# EAGLE library part 615024143921 (library Wurth_Elektronik_Electromechanic_Input-Output_Connectors_rev16a)
WR-MJ Horizontal Plastic 4 Port 6P6C Modular Jack Tab Up, 24 pins=>Code : Con_I-O_MJ-H_Plastic_Up_615024143921 <http://katalog.we-online.de/media/images/eican/Con_I-O_MJ-H_Plastic_Up_615024143921_pf2.jpg> Details see: http://katalog.we-online.de/en/em/615_024_143_921 Created 2014-07-10, Karrer Zheng 2014 (C) Würth Elektronik
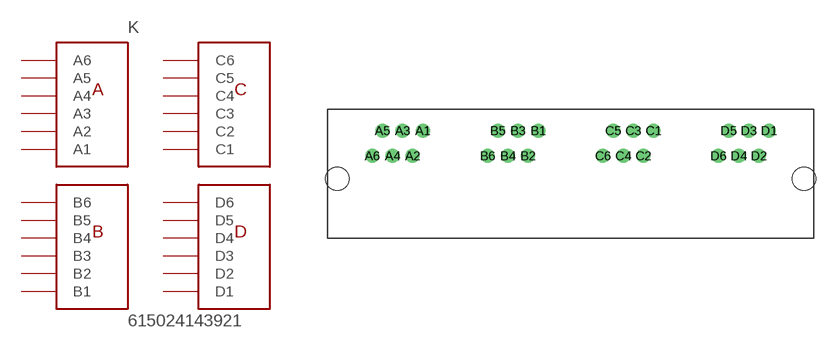
[diagram p132: symbol with the pads of 615024143921; footprint 615024143921]

Designator prefix K

## 615024143921  [615024143921]
A1  A1  pas
A2  A2  pas
A3  A3  pas
A4  A4  pas
A5  A5  pas
A6  A6  pas
B1  B1  pas
B2  B2  pas
B3  B3  pas
B4  B4  pas
B5  B5  pas
B6  B6  pas
C1  C1  pas
C2  C2  pas
C3  C3  pas
C4  C4  pas
C5  C5  pas
C6  C6  pas
D1  D1  pas
D2  D2  pas
D3  D3  pas
D4  D4  pas
D5  D5  pas
D6  D6  pas

## Footprint 615024143921 (pad centres in mm)
WR-MJ Horizontal Plastic 4 Port 6P6C Modular Jack Tab Up, 24 pins
drill 0.9: A1 -14.925,1.27; A2 -15.945,-1.27; A3 -16.965,1.27; A4 -17.985,-1.27; A5 -19.005,1.27; A6 -20.025,-1.27; B1 -3.275,1.27; B2 -4.295,-1.27; B3 -5.315,1.27; B4 -6.335,-1.27; B5 -7.355,1.27; B6 -8.375,-1.27; C1 8.375,1.27; C2 7.355,-1.27; C3 6.335,1.27; C4 5.315,-1.27; C5 4.295,1.27; C6 3.275,-1.27; D1 20.025,1.27; D2 19.005,-1.27; D3 17.985,1.27; D4 16.965,-1.27; D5 15.945,1.27; D6 14.925,-1.27
hole 2.36 at -23.55,-3.57
hole 2.36 at 23.55,-3.57